# Altium schematic symbol library LCD.SchLib: 5 symbols
Pins are listed as number, name and electrical type; pins without a type are passive.

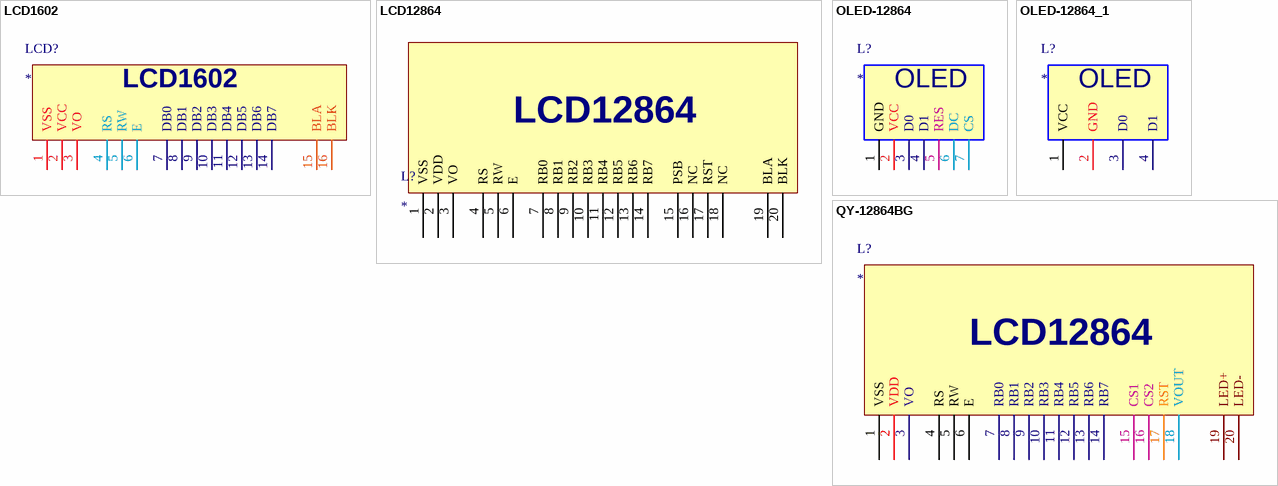
[diagram p0: symbols LCD1602 to QY-12864BG]

## LCD1602
designator LCD?
footprint LCD1602
pins: 1 VSS, 2 VCC, 3 VO, 4 RS, 5 RW, 6 E, 7 DB0, 8 DB1, 9 DB2, 10 DB3, 11 DB4, 12 DB5, 13 DB6, 14 DB7, 15 BLA, 16 BLK

## LCD12864
designator L?
footprint LCD12864
pins: 1 VSS, 2 VDD, 3 VO, 4 RS, 5 RW, 6 E, 7 RB0, 8 RB1, 9 RB2, 10 RB3, 11 RB4, 12 RB5, 13 RB6, 14 RB7, 15 PSB, 16 NC, 17 RST, 18 NC, 19 BLA, 20 BLK

## OLED-12864
designator L?
SPI接口
footprint OLED-12864 (SPI接口)
pins: 1 GND, 2 VCC, 3 D0, 4 D1, 5 RES, 6 DC, 7 CS
text: OLED

## OLED-12864_1
designator L?
I2C接口
footprint OLED-12864-1 (I2C接口)
pins: 1 VCC (power), 2 GND (power), 3 D0, 4 D1
text: OLED

## QY-12864BG
designator L?
footprint QY-12864BG
pins: 1 VSS, 2 VDD, 3 VO, 4 RS, 5 RW, 6 E, 7 RB0, 8 RB1, 9 RB2, 10 RB3, 11 RB4, 12 RB5, 13 RB6, 14 RB7, 15 CS1, 16 CS2, 17 RST, 18 VOUT, 19 LED+, 20 LED-
text: LCD12864